# EAGLE library part NFA31G (library MyComponents)
EMIFIL RC Combined Array
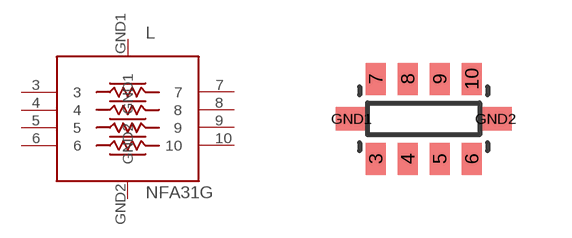
[diagram p10: symbol with the pads of NFA31G; footprint NFA31G]

Designator prefix L

## NFA31G  [NFA31G]
3  3
4  4
5  5
6  6
7  7
8  8
9  9
10  10
GND1  GND1
GND2  GND2

## Footprint NFA31G (pad centres in mm)
EMI Suppression Filters - RC Combined Array
smd 0.5 x 0.8: 3 -1.2,-1; 4 -0.4,-1; 5 0.4,-1; 6 1.2,-1; 7 -1.2,1; 8 -0.4,1; 9 0.4,1; 10 1.2,1
smd 0.8 x 0.6: GND1 -1.8,0; GND2 1.8,0